# Altium schematic symbol library AT24C32.SchLib: 1 symbol
Pins are listed as number, name and electrical type; pins without a type are passive.

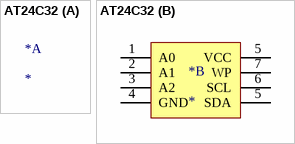
[diagram p0: symbol AT24C32]

## AT24C32
designator *
part B pins: 1 A0, 2 A1, 3 A2, 4 GND, 5 VCC, 5 SDA, 6 SCL, 7 WP